# Altium footprint library mix.PcbLib: 25 footprints (part 1 of 2)
Each footprint in its own frame and in the unit in brackets; x right, y up, seen from the top. Pads: shape width x height; smd on the part's side, far side on the other; paste and mask are expansions set on the pad; w line width, h text height; cw(c..) or ccw(c..) is an arc to the next point about the centre after c.
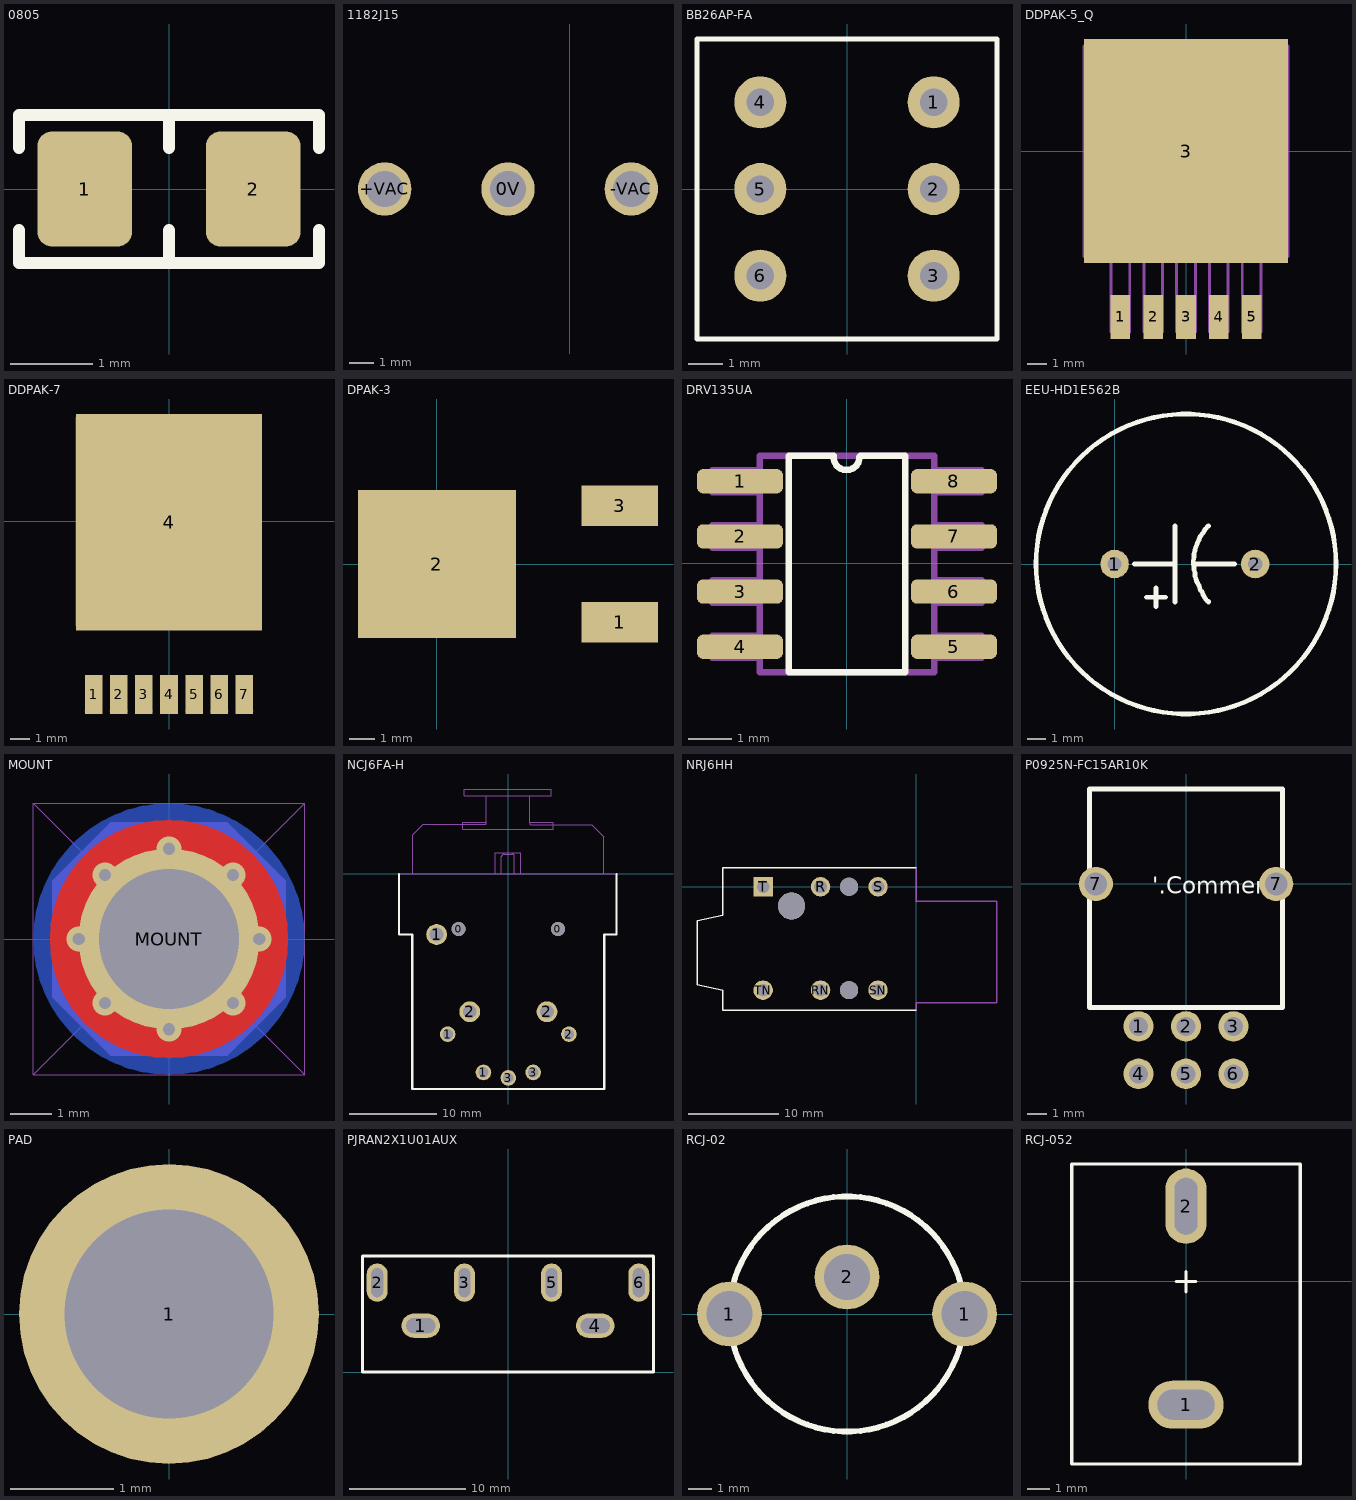
[diagram p0: the footprints below, top view; thin cyan lines are the x and y axes]

## 0805 [mm]
height 1
pads (2):
  rrect30% 1.15x1.4 smd: 1(-1.025,0) 2(1.025,0)
Top Overlay:
  lines w0.15: -1.825,-0.5 -1.825,-0.9 1.825,-0.9 1.825,-0.5 ; -1.825,0.5 -1.825,0.9 1.825,0.9 1.825,0.5 ; 0,-0.9 0,-0.5 ; 0,0.5 0,0.9
3D body "Capacitor_Package_0805_SMD.SLDPRT": height 0.78, standoff 0, extent -1,-0.625 1,0.625

## 1182J15 [mm] "toroid"
height 31.75
pads (3):
  round 2.2 hole 1.5: 0V(-2.54,43.18) +VAC(-7.62,43.18) -VAC(2.54,43.18)

## BB26AP-FA [mil]
pads (6):
  round 60 hole 31.5: 1(100,100) 2(100,0) 3(100,-100) 4(-100,100) 5(-100,0) 6(-100,-100)
Top Overlay:
  lines w5.91: 173,-173 173,173
  lines w6: 173,-173 -173,-173 -173,173 173,173
3D body "BB25AP-FA.stp": height 764, standoff -122, extent -173,-173 173,173

## DDPAK-5_Q [mil]
pads (6):
  rect 40x90 smd: 1(-134,-339) 2(-67,-339) 3(0,-339) 4(67,-339) 5(134,-339)
  rect 417x458 smd: 3(0,0)
Mechanical 1:
  lines w6: -208,-215 208,-215 208,215 -208,215 -208,-215 ; -153,-370 -153,-215 -115,-215 -115,-370 -153,-370 ; -86,-370 -86,-215 -48,-215 -48,-370 -86,-370 ; -19,-370 -19,-215 19,-215 19,-370 -19,-370 ; 48,-370 48,-215 86,-215 86,-370 48,-370 ; 115,-370 115,-215 153,-215 153,-370 115,-370
3D body "TO170P1394X457-6__NA__LINEAR TECHNOLOGY__DDPAK-5_Q-L__NA--3DModel-Eagle-2523.STEP": height 180.1, standoff -2, extent -185,-315 185,207.6

## DDPAK-7 [mil]
pads (8):
  rect 35x78 smd paste+0: 1(-150,-344.5) 2(-100,-344.5) 3(-50,-344.5) 4(0,-344.5) 5(50,-344.5) 6(100,-344.5) 7(150,-344.5)
  rect 370x431 smd paste+0: 4(0,-2)
Mechanical 13:
  lines w1: -167.5,-377.5 -132.5,-377.5 ; -167.5,-207.5 -132.5,-207.5 ; -117.5,-377.5 -82.5,-377.5 ; -117.5,-207.5 -82.5,-207.5 ; -67.5,-377.5 -32.5,-377.5 ; -67.5,-207.5 -32.5,-207.5 ; -17.5,-377.5 17.5,-377.5 ; -17.5,-207.5 17.5,-207.5 ; 32.5,-377.5 67.5,-377.5 ; 32.5,-207.5 67.5,-207.5 ; 82.5,-377.5 117.5,-377.5 ; 82.5,-207.5 117.5,-207.5 ; 132.5,-377.5 167.5,-377.5 ; 132.5,-207.5 167.5,-207.5 ; -185,-207.5 185,-207.5 185,207.5 -185,207.5 -185,-207.5
  text "*" at -162.5,-222.5 h50
3D body: height 10, standoff 0, extent 0,0 10,10
3D body "User Library-D2PAK-7.SLDPRT": height 177.17, standoff -0.04, extent -204.72,-388.78 204.72,228.31

## DPAK-3 [mm]
height 0.076
pads (3):
  rect 3x1.6 smd: 1(7.18,-2.285) 3(7.18,2.285)
  rect 6.2x5.8 smd: 2(0,0)
3D body "TO-252AA-IRF.stp": height 2.39, standoff 0, extent -2.707,-3.356 7.707,3.356

## DRV135UA [mil]
height 59.06
pads (8):
  rrect50% 78x22 smd: 1(-96.56,74.41) 2(-96.56,24.41) 3(-96.56,-25.59) 4(-96.56,-75.59) 5(97.44,-75.59) 6(97.44,-25.59) 7(97.44,24.41) 8(97.44,74.41)
Top Overlay:
  lines w0: -11.56,97.41 ccw(c0.44,97.41) 12.44,97.41
  lines w5.91: -52.17,-98.59 -52.17,97.44 ; 53.15,-98.59 53.15,97.38
  lines w5.98: -11.81,96.46 ccw(c0,96.46) 11.81,96.46
  lines w6: -52.17,-98.59 53.15,-98.59 ; -52.17,97.44 -11.59,97.44 -11.56,97.41 ; 12.44,97.41 53.18,97.41 53.15,97.38
Mechanical 1:
  lines w0: -11.56,97.41 ccw(c0.44,97.41) 12.44,97.41
  lines w6: -121.56,-85.59 -121.56,-65.59 -78.56,-65.59 -78.56,-85.59 -121.56,-85.59 ; -121.56,-35.59 -121.56,-15.59 -78.56,-15.59 -78.56,-35.59 -121.56,-35.59 ; -121.56,14.41 -121.56,34.41 -78.56,34.41 -78.56,14.41 -121.56,14.41 ; -121.56,64.41 -121.56,84.41 -78.56,84.41 -78.56,64.41 -121.56,64.41 ; -78.56,-98.59 79.44,-98.59 79.44,97.41 12.44,97.41 -11.56,97.41 -78.56,97.41 -78.56,-98.59 ; 79.44,-85.59 79.44,-65.59 122.44,-65.59 122.44,-85.59 79.44,-85.59 ; 79.44,-35.59 79.44,-15.59 122.44,-15.59 122.44,-35.59 79.44,-35.59 ; 79.44,14.41 79.44,34.41 122.44,34.41 122.44,14.41 79.44,14.41 ; 79.44,64.41 79.44,84.41 122.44,84.41 122.44,64.41 79.44,64.41
3D body "Package, SOIC-8, 3.9mm.STEP": height 59.06, standoff 0, extent -118.11,-96.46 118.11,96.46

## EEU-HD1E562B [mil]
pads (2):
  round 60 hole 30: 1(0,0) 2(295.28,0)
Top Overlay:
  circle w10: c150,0 r314.96
  lines w9.84: 41.34,0 99.41,0 ; 196.85,0 251.97,0
  lines w10: 66.98,-70 106.99,-70 ; 86.98,-90 86.98,-50 ; 96.99,0 127,0 ; 127,-80 127,80 ; 167.02,0 197.04,0 ; 197.04,-80 197.04,-78.33 195.37,-78.33 193.7,-76.67 192.03,-75 190.37,-71.67 188.7,-70 187.03,-66.67 185.36,-63.33 183.7,-58.33 180.36,-55 178.69,-50 177.03,-45 173.69,-40 172.02,-35 170.36,-30 168.69,-25 168.69,-18.33 167.02,-11.67 167.02,-5 165.35,0 165.35,6.67 167.02,15 167.02,21.67 168.69,28.33 170.36,35 173.69,43.33 177.03,50 180.36,58.33 185.36,65 190.37,73.33 197.04,80
3D body: height 1397.64, standoff 78.74, extent -164.96,-314.96 464.96,314.96

## MOUNT [mm]
pads (1):
  round 4.4 hole 3.4 mask+0.038: MOUNT(0,0)
via 1.556,1.556 diameter 0.6 hole 0.3
via 2.2,0 diameter 0.6 hole 0.3
via 1.556,-1.556 diameter 0.6 hole 0.3
via 0,-2.2 diameter 0.6 hole 0.3
via -1.556,-1.556 diameter 0.6 hole 0.3
via -2.2,0 diameter 0.6 hole 0.3
via -1.556,1.556 diameter 0.6 hole 0.3
via 0,2.2 diameter 0.6 hole 0.3
Top Layer:
  circle w1: c0,0 r2.4
Bottom Layer:
  circle w1.2: c0,0 r2.702
Top Solder:
  circle w1.6: c0,0 r2.4
Bottom Solder:
  circle w2.6: c0,0 r2.3
Mechanical 2:
  lines w0.025: -3.3,-3.3 0,0 ; -3.3,-3.3 3.3,-3.3 ; -3.3,-3.3 -3.3,3.3 ; -3.3,3.3 3.3,3.3 ; -3.3,3.3 0,0 ; 0,0 3.3,-3.3 ; 0,0 3.3,3.3 ; 3.3,-3.3 3.3,3.3
Mechanical 7:
  circle w1.2: c0,0 r2.2
  circle w0.1: c0,0.002 r2.7
  region: 0.8,-0.5 0.5,-0.8 1.066,-1.366 1.366,-1.066
  rectangle: 0.5,-1.6 1.6,-0.8
  region: 0.8,-0.5 0.8,-1.6 1.6,-1.6 1.6,-0.5
  region: -0.5,-0.8 -0.8,-0.5 -1.366,-1.066 -1.066,-1.366
  region: -1.6,-0.5 -1.6,-1.6 -0.8,-1.6 -0.8,-0.5
  region: -0.5,-0.8 -1.6,-0.8 -1.6,-1.6 -0.5,-1.6
  region: -0.8,0.5 -0.5,0.8 -1.066,1.366 -1.366,1.066
  region: -0.5,1.6 -1.6,1.6 -1.6,0.8 -0.5,0.8
  region: -0.8,0.5 -0.8,1.6 -1.6,1.6 -1.6,0.5
  region: 0.5,0.8 0.8,0.5 1.366,1.066 1.066,1.366
  region: 1.6,0.5 1.6,1.6 0.8,1.6 0.8,0.5
  rectangle: 0.5,0.8 1.6,1.6
Mechanical 8:
  circle w0.6: c0,0 r2
  rectangle: -2.8,-1.4 -1.7,1.4
  region: 1.4,1.7 1.4,2.8 -1.4,2.8 -1.4,1.7
  region: -1.4,-1.7 -1.4,-2.8 1.4,-2.8 1.4,-1.7
  region: 0.551,-1.951 1.4,-2.8 2.8,-1.4 1.951,-0.551
  region: 1.951,0.551 2.8,1.4 1.4,2.8 0.551,1.951
  region: -0.551,1.951 -1.4,2.8 -2.8,1.4 -1.951,0.551
  region: -1.951,-0.551 -2.8,-1.4 -1.4,-2.8 -0.551,-1.951
  rectangle: 1.7,-1.4 2.8,1.4
  lines w0.1: -2.8,-1.4 -2.8,1.4 -1.4,2.8 1.4,2.8 2.8,1.4 2.8,-1.4 1.4,-2.8 -1.4,-2.8 -2.8,-1.4

## NCJ6FA-H [mil]
height 984.25
pads (10):
  round 62.99 hole 62.99 unplated: 0(-225,-250) 0(225,-250)
  round 94.48 / inner round 60 / far side round 94.48 hole 62.99: 1(-324.8,-275) 2(-175,-625) 2(175,-625)
  round 70.86 / inner round 60 / far side round 70.86 hole 47.24: 1(-275,-726.38) 1(-112.5,-900) 2(275,-726.38) 3(0,-925) 3(112.5,-900)
Top Overlay:
  lines w10: -495,0 -495,-275 -435,-275 -435,-975 435,-975 435,-275 490,-275 490,0
Mechanical 8:
  lines w4: -492.13,0 -433.46,0 ; -433.07,0 -433.07,176.77 -386.22,224.02 -205.91,224.02 ; -432.28,0 492.13,0 ; -205.91,222.83 -205.91,201.57 202.76,201.57 202.76,221.65 ; -100.79,233.46 -205.91,233.46 -205.91,224.02 ; -99.61,351.57 -99.61,231.1 cw(c-106.69,231.1) -106.69,224.02 -205.91,224.02 ; -59.45,1.18 -59.45,95.67 56.3,95.67 56.3,1.18 ; -31.1,2.36 -31.1,76.77 cw(c-18.11,76.77) -18.11,89.76 17.32,89.76 cw(c17.32,79.13) 27.95,79.13 27.95,2.36 ; 96.46,351.57 96.46,231.1 ccw(c104.72,231.09) 104.72,222.83 202.76,222.83 ; 98.82,233.46 202.76,233.46 202.76,222.83 ; 433.07,0 433.07,168.5 378.35,222.83 202.76,222.83 ; -198.82,353.94 195.67,353.94 195.67,384.65 -198.82,384.65 -198.82,353.94
3D body: height 10, standoff 0, extent -90,175 -90,175

## NRJ6HH [mm]
height 12.7
pads (9):
  round 2.15 hole 1.4 paste-1000 mask+0: R(-10.6,0) RN(-10.6,-11.43) S(-4.25,0) SN(-4.25,-11.43) TN(-16.95,-11.43)
  rect 2.15x2.15 hole 1.4 paste-1000 mask+0: T(-16.95,0)
  round 3 hole 3 unplated: ""(-13.8,-2.13)
  round 2 hole 2 unplated: ""(-7.45,-11.43) ""(-7.45,0)
Top Overlay:
  lines w0.15: 0,-13.65 -21.412,-13.65 -21.412,-11.446 -24.257,-10.811 -24.257,-3.784 -21.412,-3.149 -21.412,2.1 0,2.1
Mechanical 15:
  lines w0.15: -4.25,-11.43 -4.17,-11.43 ; 0,-13.65 0,-12.842 ; 0,-12.83 8.9,-12.83 8.9,-7.27 ; 0,-1.626 8.9,-1.626 8.9,-7.22 ; 0,2.1 0,-1.638 0.012,-1.626
3D body "nrj6hh-1.stp": height 12.7, standoff -4, extent -24.3,-13.65 8.9,2.1

## P0925N-FC15AR10K [mm] "P0925N-FC15AR10K"
height 24.15
pads (8):
  round 1.6 hole 1: 1(-2.5,-7.5) 2(0,-7.5) 3(2.5,-7.5) 4(-2.5,-10) 5(0,-10) 6(2.5,-10)
  round 1.8 hole 1.2: 7(-4.75,0) 7(4.75,0)
Top Overlay:
  lines w0.254: -5.08,-6.5 5.08,-6.5 5.08,5 -5.08,5 -5.08,-6.5
  text "'.Comment'" at -1.778,-0.508 h0.89
3D body "P0915N-EC15BR10K.stp": height 25, standoff -3.3, extent -6.049,-7.65 6.049,4.85
3D body: height 26.16, standoff 16, extent -9.525,-9.522 9.525,9.522

## PAD [mil]
pads (1):
  round 115 hole 80: 1(0,0)

## PJRAN2X1U01AUX [mm]
height 0.343
pads (6):
  oval 3.3x2.1 hole 1.3 slot 2.5 at 0 deg: 1(-7.5,4) 4(7.5,4)
  oval 1.8x3.3 hole 2.5 slot 1 at 0 deg: 2(-11.25,7.7) 3(-3.75,7.7) 5(3.75,7.7) 6(11.25,7.7)
Top Overlay:
  lines w0.254: -12.5,0 12.5,0 12.5,10 -12.5,10 -12.5,0
3D body "PJRAN2X1U01AUX.sldprt": height 13.5, standoff -4, extent -12.5,-9.5 12.5,10

## RCJ-02 [mm]
height 14
pads (3):
  round 2.8 hole 2: 1(-5.08,0) 1(5.08,0) 2(0,1.6)
Top Overlay:
  circle w0.254: c0,0 r5.08
3D body "CUI_RCJ-023.sldprt": height 15.8, standoff -6.3, extent -6.477,-5 6.477,5

## RCJ-052 [mm]
pads (2):
  oval 3.3x2.1 hole 1.3 slot 2.5 at 0 deg: 1(0,-5.4)
  oval 1.8x3.3 hole 2.5 slot 1 at 0 deg: 2(0,3.3)
Top Overlay:
  lines w0.15: -0.425,0 0.425,0 ; 0,-0.45 0,0.425 ; -5,-8 -5,5.15 5,5.15 5,-8 -5,-8
3D body "CUI_INC_RCJ-052.step": height 19.5, standoff -4, extent -5,-8 5,5